# Altium schematic symbol library 语音芯片.SchLib: 1 symbol
Pins are listed as number, name and electrical type; pins without a type are passive.

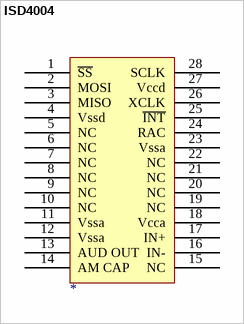
[diagram p0: symbol ISD4004]

## ISD4004
designator ?
pins: 1 ~{SS}, 2 MOSI, 3 MISO, 4 Vssd, 5 NC, 6 NC, 7 NC, 8 NC, 9 NC, 10 NC, 11 Vssa, 12 Vssa, 13 AUD OUT, 14 AM CAP, 15 NC, 16 IN-, 17 IN+, 18 Vcca, 19 NC, 20 NC, 21 NC, 22 NC, 23 Vssa, 24 RAC, 25 ~{INT}, 26 XCLK, 27 Vccd, 28 SCLK